# EAGLE library part ATMEGA2560 (library ic)
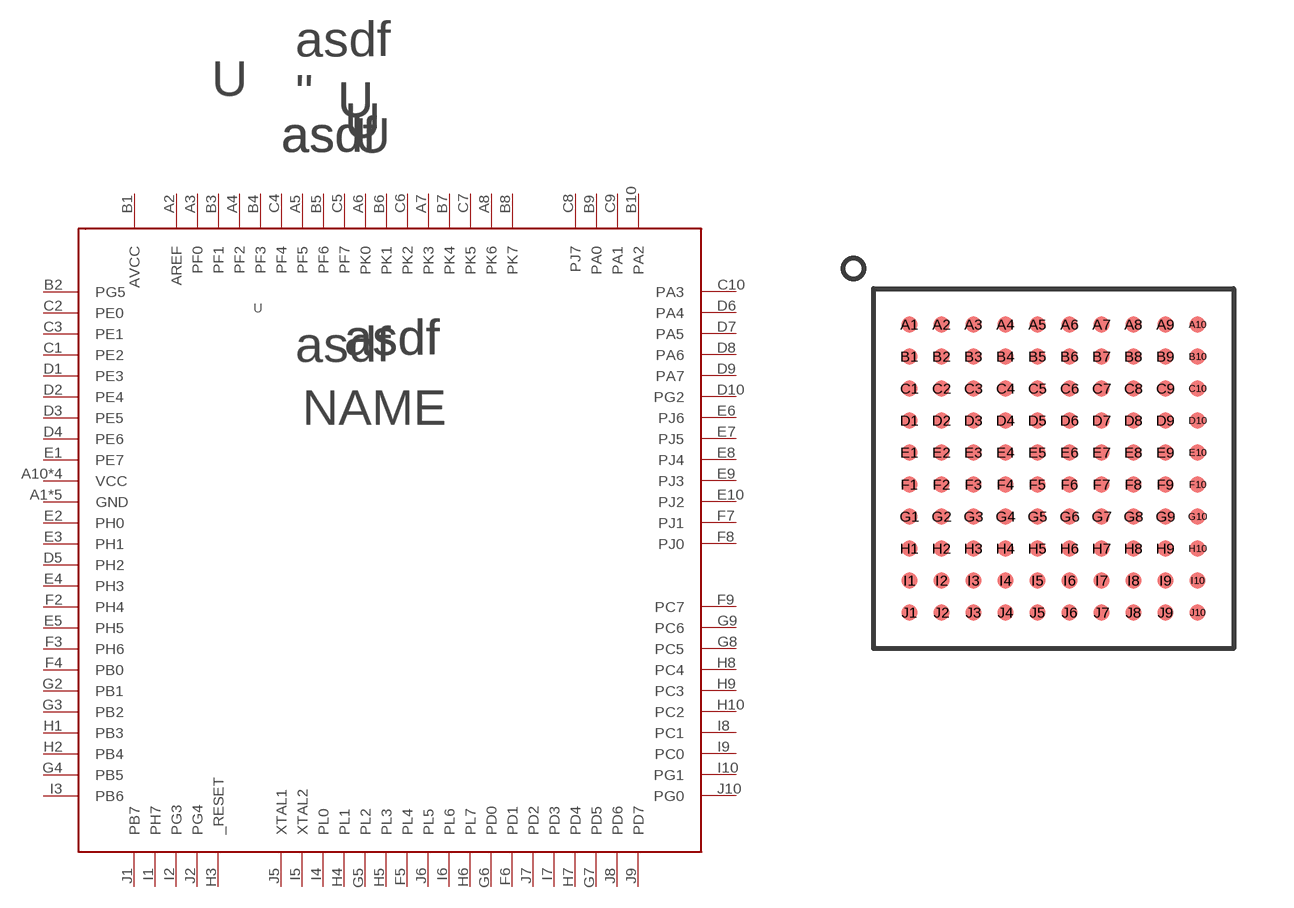
[diagram p9: symbol with the pads of CBGA100; footprint CBGA100]

Designator prefix U

## ATMEGA2560  [CBGA100]
A1  GND
A2  AREF
A3  PF0
A4  PF2
A5  PF5
A6  PK0
A7  PK3
A8  PK6
A9  GND
A10  VCC
B1  AVCC
B2  PG5
B3  PF1
B4  PF3
B5  PF6
B6  PK1
B7  PK4
B8  PK7
B9  PA0
B10  PA2
C1  PE2
C2  PE0
C3  PE1
C4  PF4
C5  PF7
C6  PK2
C7  PK5
C8  PJ7
C9  PA1
C10  PA3
D1  PE3
D2  PE4
D3  PE5
D4  PE6
D5  PH2
D6  PA4
D7  PA5
D8  PA6
D9  PA7
D10  PG2
E1  PE7
E2  PH0
E3  PH1
E4  PH3
E5  PH5
E6  PJ6
E7  PJ5
E8  PJ4
E9  PJ3
E10  PJ2
F1  VCC
F2  PH4
F3  PH6
F4  PB0
F5  PL4
F6  PD1
F7  PJ1
F8  PJ0
F9  PC7
F10  GND
G1  GND
G2  PB1
G3  PB2
G4  PB5
G5  PL2
G6  PD0
G7  PD5
G8  PC5
G9  PC6
G10  VCC
H1  PB3
H2  PB4
H3  _RESET
H4  PL1
H5  PL3
H6  PL7
H7  PD4
H8  PC4
H9  PC3
H10  PC2
I1  PH7
I2  PG3
I3  PB6
I4  PL0
I5  XTAL2
I6  PL6
I7  PD3
I8  PC1
I9  PC0
I10  PG1
J1  PB7
J2  PG4
J3  VCC
J4  GND
J5  XTAL1
J6  PL5
J7  PD2
J8  PD6
J9  PD7
J10  PG0

## Footprint CBGA100 (pad centres in mm)
smd 0.4 x 0.4: A1 -3.6,3.6; A2 -2.8,3.6; A3 -2,3.6; A4 -1.2,3.6; A5 -0.4,3.6; A6 0.4,3.6; A7 1.2,3.6; A8 2,3.6; A9 2.8,3.6; A10 3.6,3.6; B1 -3.6,2.8; B2 -2.8,2.8; B3 -2,2.8; B4 -1.2,2.8; B5 -0.4,2.8; B6 0.4,2.8; B7 1.2,2.8; B8 2,2.8; B9 2.8,2.8; B10 3.6,2.8; C1 -3.6,2; C2 -2.8,2; C3 -2,2; C4 -1.2,2; C5 -0.4,2; C6 0.4,2; C7 1.2,2; C8 2,2; C9 2.8,2; C10 3.6,2; D1 -3.6,1.2; D2 -2.8,1.2; D3 -2,1.2; D4 -1.2,1.2; D5 -0.4,1.2; D6 0.4,1.2; D7 1.2,1.2; D8 2,1.2; D9 2.8,1.2; D10 3.6,1.2; E1 -3.6,0.4; E2 -2.8,0.4; E3 -2,0.4; E4 -1.2,0.4; E5 -0.4,0.4; E6 0.4,0.4; E7 1.2,0.4; E8 2,0.4; E9 2.8,0.4; E10 3.6,0.4; F1 -3.6,-0.4; F2 -2.8,-0.4; F3 -2,-0.4; F4 -1.2,-0.4; F5 -0.4,-0.4; F6 0.4,-0.4; F7 1.2,-0.4; F8 2,-0.4; F9 2.8,-0.4; F10 3.6,-0.4; G1 -3.6,-1.2; G2 -2.8,-1.2; G3 -2,-1.2; G4 -1.2,-1.2; G5 -0.4,-1.2; G6 0.4,-1.2; G7 1.2,-1.2; G8 2,-1.2; G9 2.8,-1.2; G10 3.6,-1.2; H1 -3.6,-2; H2 -2.8,-2; H3 -2,-2; H4 -1.2,-2; H5 -0.4,-2; H6 0.4,-2; H7 1.2,-2; H8 2,-2; H9 2.8,-2; H10 3.6,-2; I1 -3.6,-2.8; I2 -2.8,-2.8; I3 -2,-2.8; I4 -1.2,-2.8; I5 -0.4,-2.8; I6 0.4,-2.8; I7 1.2,-2.8; I8 2,-2.8; I9 2.8,-2.8; I10 3.6,-2.8; J1 -3.6,-3.6; J2 -2.8,-3.6; J3 -2,-3.6; J4 -1.2,-3.6; J5 -0.4,-3.6; J6 0.4,-3.6; J7 1.2,-3.6; J8 2,-3.6; J9 2.8,-3.6; J10 3.6,-3.6